# Altium footprint library PcbLib1.PcbLib: 2 footprints
Each footprint in its own frame and in the unit in brackets; x right, y up, seen from the top. Pads: shape width x height; smd on the part's side, far side on the other; paste and mask are expansions set on the pad; w line width, h text height; cw(c..) or ccw(c..) is an arc to the next point about the centre after c.
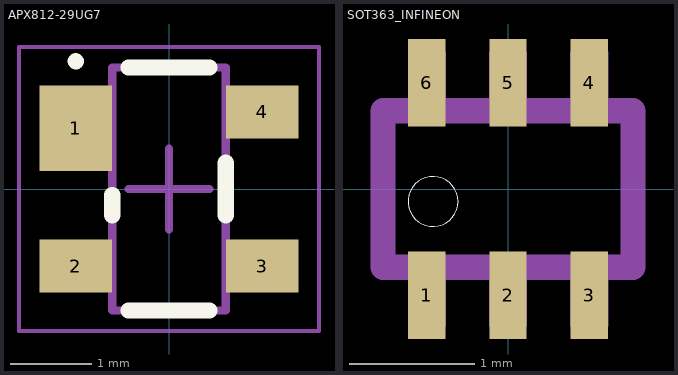
[diagram p0: the footprints below, top view; thin cyan lines are the x and y axes]

## APX812-29UG7 [mm] "SOT143, 4-Leads, Body 2.90x2.38mm, Pitch 1.90mm, IPC Medium Density"
height 1.1
pads (4):
  rect 0.9x1.05 smd: 1(-1.15,0.75)
  rect 0.9x0.65 smd: 2(-1.15,-0.95) 3(1.15,-0.95) 4(1.15,0.95)
Top Overlay:
  circle w0.1: c-1.15,1.575 r0.05
  lines w0.2: -0.7,-0.325 -0.7,-0.075 ; -0.5,-1.5 0.5,-1.5 ; -0.5,1.5 0.5,1.5 ; 0.7,-0.325 0.7,0.325
Mechanical 13:
  lines w0.1: -0.7,-1.5 -0.7,1.5 0.7,1.5 0.7,-1.5 -0.7,-1.5
Mechanical 15:
  lines w0.05: -1.85,-1.75 -1.85,1.75 1.85,1.75 1.85,-1.75 -1.85,-1.75
  lines w0.1: -0.5,0 0.5,0 ; 0,-0.5 0,0.5
3D body "APX812-29UG7.step": height 1.1, standoff 0.01, extent -1.185,-1.5 1.185,1.5

## SOT363_INFINEON [mm]
pads (6):
  rect 0.3x0.7 smd: 1(-0.65,-0.85) 2(0,-0.85) 3(0.65,-0.85) 4(0.65,0.85) 5(0,0.85) 6(-0.65,0.85)
Top Overlay:
  circle w0: c-0.6,-0.1 r0.2
Mechanical 13:
  region: -0.5,-1.1 -0.8,-1.1 -0.8,-0.6 -0.5,-0.6
  region: 0.15,-1.1 -0.15,-1.1 -0.15,-0.6 0.15,-0.6
  region: 0.8,-1.1 0.5,-1.1 0.5,-0.6 0.8,-0.6
  region: 0.8,0.6 0.5,0.6 0.5,1.1 0.8,1.1
  region: 0.15,0.6 -0.15,0.6 -0.15,1.1 0.15,1.1
  region: -0.5,0.6 -0.8,0.6 -0.8,1.1 -0.5,1.1
  lines w0.203: -1,-0.625 1,-0.625 1,0.625 -1,0.625 -1,-0.625
3D body "step_temp.STEP": height 1.1, standoff 0, extent -1,-1.05 1,1.05